# Altium schematic symbol library A6211GLJTR-T.SchLib: 1 symbol
Pins are listed as number, name and electrical type; pins without a type are passive.

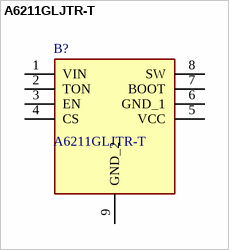
[diagram p0: symbol A6211GLJTR-T]

## A6211GLJTR-T
designator B?
Led Driver 2A Buck; Manufacturer_Name: Allegro Microsystems; Geometry.Height: 1.7mm; Manufacturer_Part_Number: A6211GLJTR-T; Mouser Part Number: 250-A6211GLJTR-T; Mouser Price/Stock: https://www.mouser.co.uk/ProductDetail/Allegro-MicroSystems/A6211GLJTR-T?qs=pUKx8fyJudB6ktKC8t53Sg%3D%3D; Arrow Part Number: A6211GLJTR-T; Arrow Price/Stock: https://www.arrow.com/en/products/a6211gljtr-t/allegro-microsystems; Datasheet Link: https://www.allegromicro.com/~/media/Files/Datasheets/A6211-Datasheet.ashx
footprint SOIC127P600X170-9N
pins: 1 VIN, 2 TON, 3 EN, 4 CS, 5 VCC, 6 GND_1, 7 BOOT, 8 SW, 9 GND_2